# Altium schematic symbol library Schlib_CUI.SchLib: 19 symbols
Pins are listed as number, name and electrical type; pins without a type are passive.

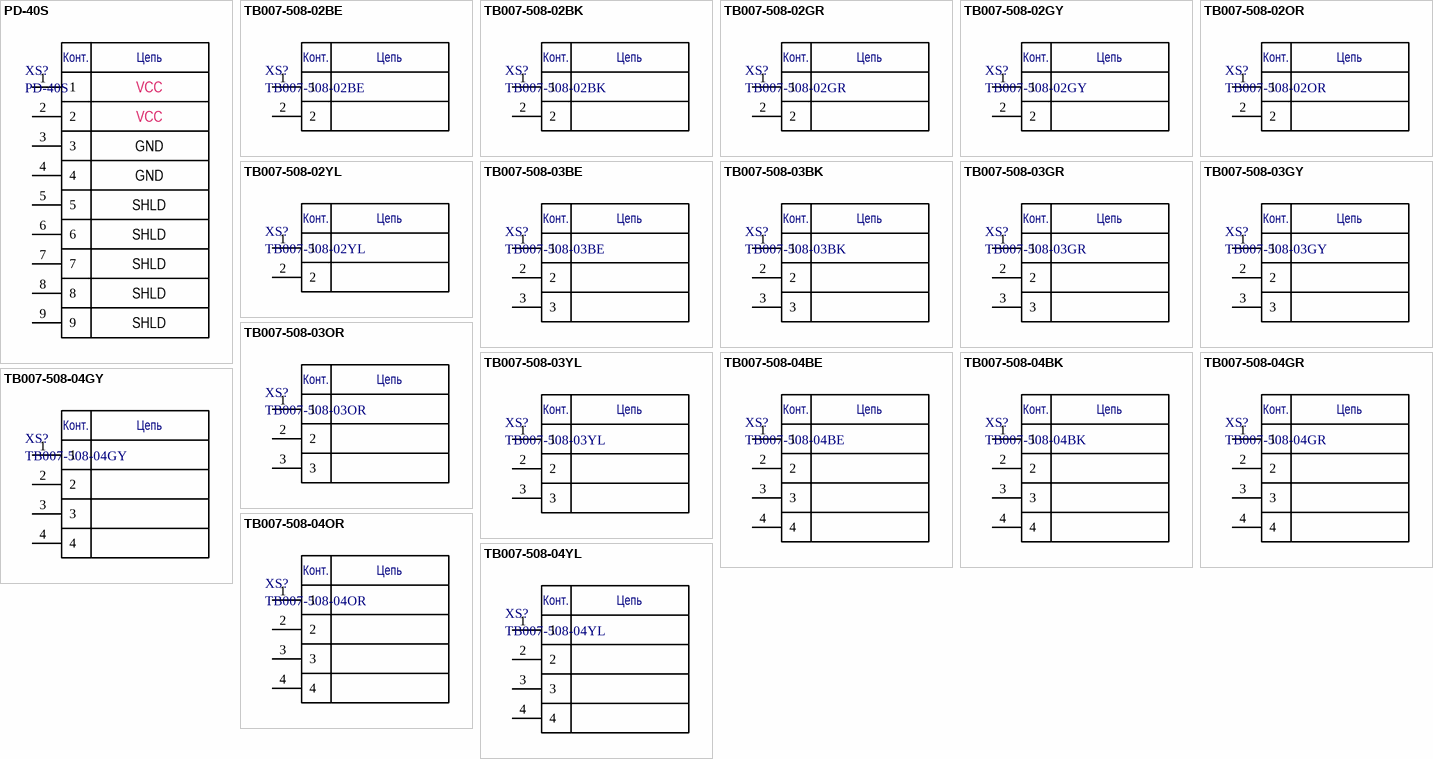
[diagram p0: symbols PD-40S to TB007-508-04YL]

## PD-40S
designator XS?
Connector jack female DIN 4 pin solder; Manufacturer: CUI Inc.; PartNumber: PD-40S
footprint PD-40S
pins: 1, 2, 3, 4, 5, 6, 7, 8, 9
text: Конт.; Цепь; VCC; GND; SHLD

## TB007-508-02BE
designator XS?
Terminal block, screw type, 5.08mm pitch; Manufacturer: CUI Inc.; Current: 16A; Voltage: 300V; PartNumber: TB007-508-02BE
footprint TB007-508-02BE
pins: 1, 2
text: Конт.; Цепь

## TB007-508-02BK
designator XS?
Terminal block, screw type, 5.08mm pitch; Manufacturer: CUI Inc.; Current: 16A; Voltage: 300V; PartNumber: TB007-508-02BK
footprint TB007-508-02BK
pins: 1, 2
text: Конт.; Цепь

## TB007-508-02GR
designator XS?
Terminal block, screw type, 5.08mm pitch; Manufacturer: CUI Inc.; Current: 16A; Voltage: 300V; PartNumber: TB007-508-02GR
footprint TB007-508-02GR
pins: 1, 2
text: Конт.; Цепь

## TB007-508-02GY
designator XS?
Terminal block, screw type, 5.08mm pitch; Manufacturer: CUI Inc.; Current: 16A; Voltage: 300V; PartNumber: TB007-508-02GY
footprint TB007-508-02GY
pins: 1, 2
text: Конт.; Цепь

## TB007-508-02OR
designator XS?
Terminal block, screw type, 5.08mm pitch; Manufacturer: CUI Inc.; Current: 16A; Voltage: 300V; PartNumber: TB007-508-02OR
footprint TB007-508-02OR
pins: 1, 2
text: Конт.; Цепь

## TB007-508-02YL
designator XS?
Terminal block, screw type, 5.08mm pitch; Manufacturer: CUI Inc.; Current: 16A; Voltage: 300V; PartNumber: TB007-508-02YL
footprint TB007-508-02YL
pins: 1, 2
text: Конт.; Цепь

## TB007-508-03BE
designator XS?
Terminal block, screw type, 5.08mm pitch; Manufacturer: CUI Inc.; Current: 16A; Voltage: 300V; PartNumber: TB007-508-03BE
footprint TB007-508-03BE
pins: 1, 2, 3
text: Конт.; Цепь

## TB007-508-03BK
designator XS?
Terminal block, screw type, 5.08mm pitch; Manufacturer: CUI Inc.; Current: 16A; Voltage: 300V; PartNumber: TB007-508-03BK
footprint TB007-508-03BK
pins: 1, 2, 3
text: Конт.; Цепь

## TB007-508-03GR
designator XS?
Terminal block, screw type, 5.08mm pitch; Manufacturer: CUI Inc.; Current: 16A; Voltage: 300V; PartNumber: TB007-508-03GR
footprint TB007-508-03GR
pins: 1, 2, 3
text: Конт.; Цепь

## TB007-508-03GY
designator XS?
Terminal block, screw type, 5.08mm pitch; Manufacturer: CUI Inc.; Current: 16A; Voltage: 300V; PartNumber: TB007-508-03GY
footprint TB007-508-03GY
pins: 1, 2, 3
text: Конт.; Цепь

## TB007-508-03OR
designator XS?
Terminal block, screw type, 5.08mm pitch; Manufacturer: CUI Inc.; Current: 16A; Voltage: 300V; PartNumber: TB007-508-03OR
footprint TB007-508-03OR
pins: 1, 2, 3
text: Конт.; Цепь

## TB007-508-03YL
designator XS?
Terminal block, screw type, 5.08mm pitch; Manufacturer: CUI Inc.; Current: 16A; Voltage: 300V; PartNumber: TB007-508-03YL
footprint TB007-508-03YL
pins: 1, 2, 3
text: Конт.; Цепь

## TB007-508-04BE
designator XS?
Terminal block, screw type, 5.08mm pitch; Manufacturer: CUI Inc.; Current: 16A; Voltage: 300V; PartNumber: TB007-508-04BE
footprint TB007-508-04BE
pins: 1, 2, 3, 4
text: Конт.; Цепь

## TB007-508-04BK
designator XS?
Terminal block, screw type, 5.08mm pitch; Manufacturer: CUI Inc.; Current: 16A; Voltage: 300V; PartNumber: TB007-508-04BK
footprint TB007-508-04BK
pins: 1, 2, 3, 4
text: Конт.; Цепь

## TB007-508-04GR
designator XS?
Terminal block, screw type, 5.08mm pitch; Manufacturer: CUI Inc.; Current: 16A; Voltage: 300V; PartNumber: TB007-508-04GR
footprint TB007-508-04GR
pins: 1, 2, 3, 4
text: Конт.; Цепь

## TB007-508-04GY
designator XS?
Terminal block, screw type, 5.08mm pitch; Manufacturer: CUI Inc.; Current: 16A; Voltage: 300V; PartNumber: TB007-508-04GY
footprint TB007-508-04GY
pins: 1, 2, 3, 4
text: Конт.; Цепь

## TB007-508-04OR
designator XS?
Terminal block, screw type, 5.08mm pitch; Manufacturer: CUI Inc.; Current: 16A; Voltage: 300V; PartNumber: TB007-508-04OR
footprint TB007-508-04OR
pins: 1, 2, 3, 4
text: Конт.; Цепь

## TB007-508-04YL
designator XS?
Terminal block, screw type, 5.08mm pitch; Manufacturer: CUI Inc.; Current: 16A; Voltage: 300V; PartNumber: TB007-508-04YL
footprint TB007-508-04YL
pins: 1, 2, 3, 4
text: Конт.; Цепь